# Altium integrated library RCS06031K10FKEA.IntLib: 1 symbol
Pins are listed as number, name and electrical type; pins without a type are passive.

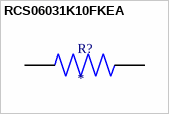
[diagram p0: symbol RCS06031K10FKEA]

## RCS06031K10FKEA
designator R?
MP: RCS06031K10FKEA; Package: None; Price: None; Value: *; Availability: Unavailable
footprint RESC1508X50N
pins: 1, 2